# EAGLE library part PBP-70 (library QuantumOptics)
Filter, Band Pass, 70MHz Mini-Circuits, through-hole
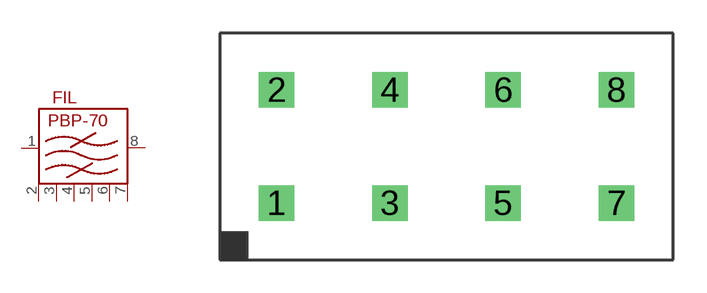
[diagram p4: symbol with the pads of A01-MINICIRCUITS; footprint A01-MINICIRCUITS]

Designator prefix FIL

## PBP-70  [A01-MINICIRCUITS]
1  IN
2  GND  sup
3  GND  sup
4  GND  sup
5  GND  sup
6  GND  sup
7  GND  sup
8  OUT

## Footprint A01-MINICIRCUITS (pad centres in mm)
Filter Mini-Circuits, through-hole, package "A01"
drill 1.067 square: 1 -7.62,-2.54; 2 -7.62,2.54; 3 -2.54,-2.54; 4 -2.54,2.54; 5 2.54,-2.54; 6 2.54,2.54; 7 7.62,-2.54; 8 7.62,2.54